# EAGLE library part LIGHTSENSOR (library PPMK_MSP430FR6989)
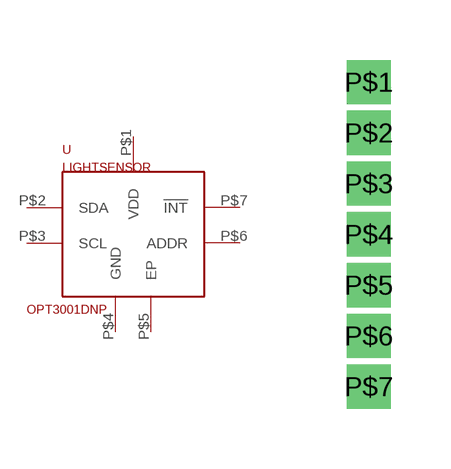
[diagram p4: symbol with the pads of LIGHTSENSOR; footprint LIGHTSENSOR]

Designator prefix -

## LIGHTSENSOR  [LIGHTSENSOR]
P$1  VDD
P$2  SDA
P$3  SCL
P$4  GND
P$5  EP
P$6  ADDR
P$7  !INT

## Footprint LIGHTSENSOR (pad centres in mm)
drill 0.6 square: P$1 -7.62,3.81; P$2 -7.62,2.54; P$3 -7.62,1.27; P$4 -7.62,0; P$5 -7.62,-1.27; P$6 -7.62,-2.54; P$7 -7.62,-3.81